# Altium footprint library SnapEDApcb.PcbLib: 1 footprints
Each footprint in its own frame and in the unit in brackets; x right, y up, seen from the top. Pads: shape width x height; smd on the part's side, far side on the other; paste and mask are expansions set on the pad; w line width, h text height; cw(c..) or ccw(c..) is an arc to the next point about the centre after c.
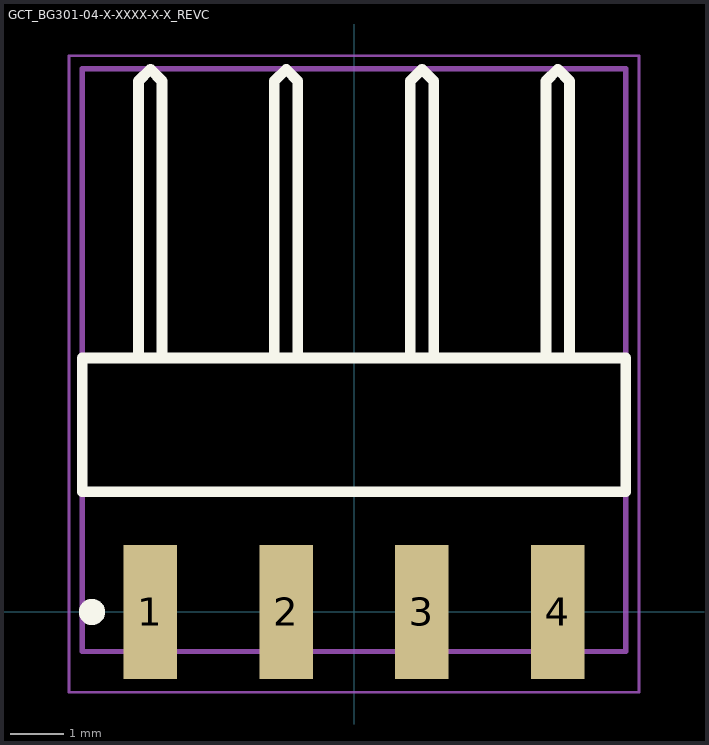
[diagram p0: the footprint, top view; thin cyan lines are the x and y axes]

## GCT_BG301-04-X-XXXX-X-X_REVC [mm]
pads (4):
  rect 1x2.5 smd: 1(-3.81,0) 2(-1.27,0) 3(1.27,0) 4(3.81,0)
Top Overlay:
  circle w0.25: c-4.9,0 r0.12
  lines w0.2: -4.03,4.75 -4.03,9.93 -3.807,10.15 -3.59,9.93 -3.59,4.75 ; -1.49,4.75 -1.49,9.93 -1.267,10.15 -1.05,9.93 -1.05,4.75 ; 1.05,4.75 -5.08,4.75 -5.08,2.25 5.08,2.25 5.08,4.75 4.03,4.75 ; 1.05,4.75 1.49,4.75 ; 1.05,4.75 1.05,9.93 1.273,10.15 1.49,9.93 1.49,4.75 ; 1.49,4.75 3.59,4.75 ; 3.59,4.75 4.03,4.75 ; 3.59,4.75 3.59,9.93 3.813,10.15 4.03,9.93 4.03,4.75
Mechanical 13:
  lines w0.1: -5.08,-0.74 5.08,-0.74 5.08,10.16 -5.08,10.16 -5.08,-0.74
Mechanical 15:
  lines w0.05: -5.33,-1.5 5.33,-1.5 5.33,10.4 -5.33,10.4 -5.33,-1.5